# Altium schematic symbol library u-blox SARA-G3.SchLib: 1 symbol
Pins are listed as number, name and electrical type; pins without a type are passive.

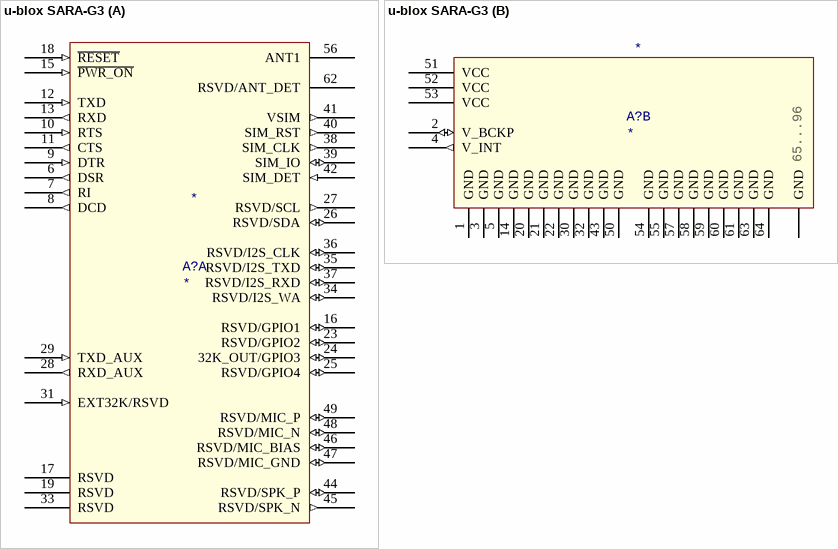
[diagram p0: symbol u-blox SARA-G3]

## u-blox SARA-G3
designator A?
Part Number: *
part A pins: 6 DSR (out), 7 RI (out), 8 DCD (out), 9 DTR (in), 10 RTS (in), 11 CTS (out), 12 TXD (in), 13 RXD (out), 15 ~{PWR_ON} (in), 16 RSVD/GPIO1 (io), 17 RSVD, 18 ~{RESET} (in), 19 RSVD, 23 RSVD/GPIO2 (io), 24 32K_OUT/GPIO3 (io), 25 RSVD/GPIO4 (io), 26 RSVD/SDA (io), 27 RSVD/SCL (out), 28 RXD_AUX (out), 29 TXD_AUX (in), 31 EXT32K/RSVD (in), 33 RSVD, 34 RSVD/I2S_WA (io), 35 RSVD/I2S_TXD (io), 36 RSVD/I2S_CLK (io), 37 RSVD/I2S_RXD (io), 38 SIM_CLK (out), 39 SIM_IO (io), 40 SIM_RST (out), 41 VSIM (out), 42 SIM_DET (in), 44 RSVD/SPK_P (io), 45 RSVD/SPK_N (out), 46 RSVD/MIC_BIAS (io), 47 RSVD/MIC_GND (io), 48 RSVD/MIC_N (io), 49 RSVD/MIC_P (io), 56 ANT1, 62 RSVD/ANT_DET
part B pins: 1 GND (power), 2 V_BCKP (io), 3 GND (power), 4 V_INT (out), 5 GND (power), 14 GND, 20 GND (power), 21 GND (power), 22 GND (power), 30 GND (power), 32 GND (power), 43 GND (power), 50 GND (power), 51 VCC (power), 52 VCC (power), 53 VCC (power), 54 GND (power), 55 GND (power), 57 GND (power), 58 GND (power), 59 GND (power), 60 GND (power), 61 GND (power), 63 GND (power), 64 GND (power), 65 GND, 66 GND, 67 GND, 68 GND, 69 GND, 70 GND, 71 GND, 72 GND, 73 GND, 74 GND, 75 GND, 76 GND, 77 GND, 78 GND, 79 GND, 80 GND, 81 GND, 82 GND, 83 GND, 84 GND, 85 GND, 86 GND, 87 GND, 88 GND, 89 GND, 90 GND, 91 GND, 92 GND, 93 GND, 94 GND, 95 GND, 96 GND
part B text: 65...96